# Altium schematic symbol library Power.SchLib: 38 symbols
Pins are listed as number, name and electrical type; pins without a type are passive.

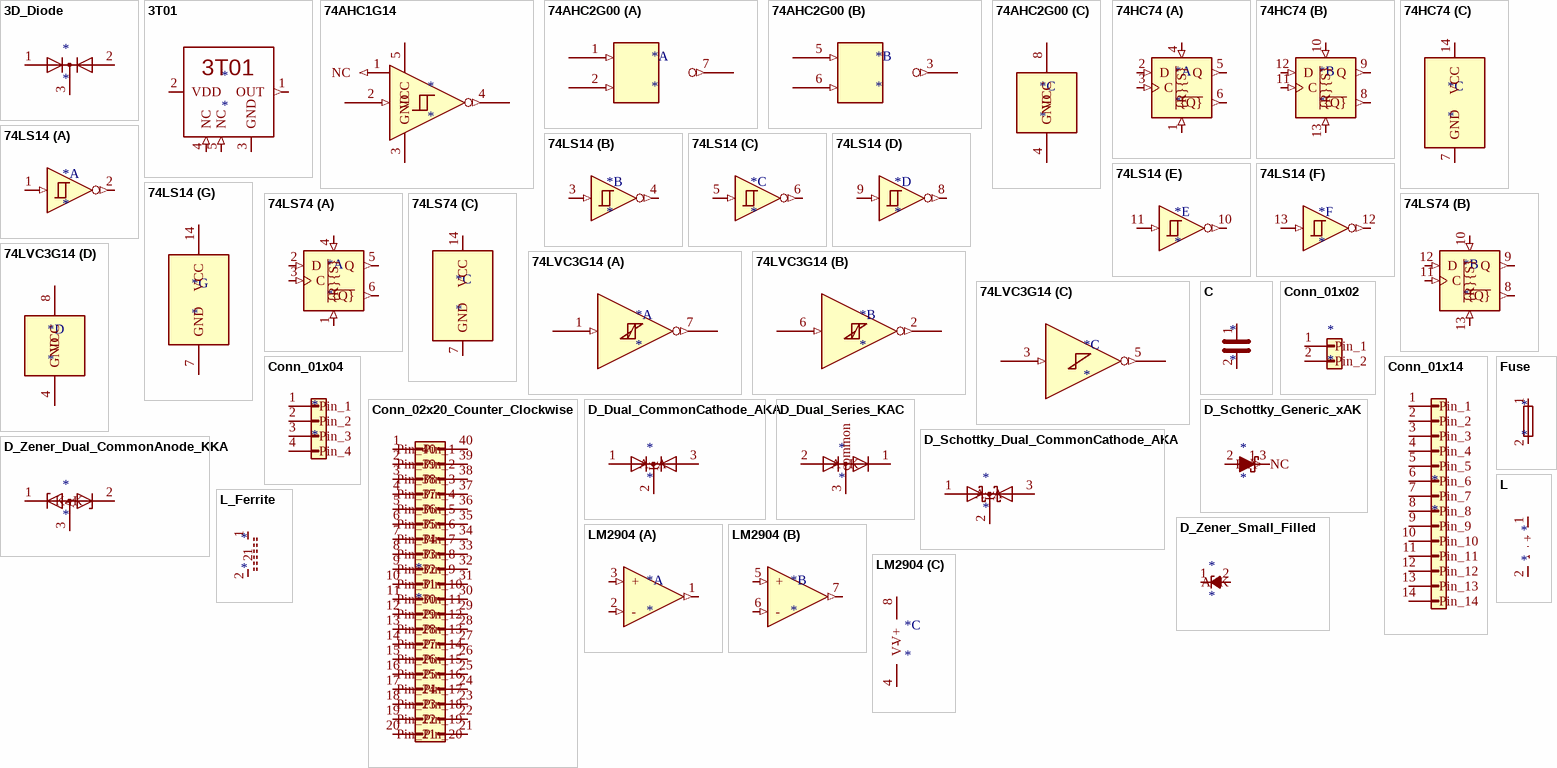
[diagram p0: symbols 3D_Diode to LM2904]

## 3D_Diode
designator *
pins: 1, 2, 3

## 3T01
designator *
pins: 1 OUT (out), 2 VDD (power), 3 GND (power), 4 NC (in), 5 NC (in)

## 74AHC1G14
designator *
pins: 1 NC (in), 2 (in), 3 GND (power), 4 (out), 5 VCC (power)

## 74AHC2G00
designator *
part A pins: 1 (in), 2 (in), 7 (out)
part B pins: 3 (out), 5 (in), 6 (in)
part C pins: 4 GND (power), 8 VCC (power)

## 74HC74
designator *
part A pins: 1 ~{{R}} (in), 2 D (in), 3 C (in), 4 ~{{S}} (in), 5 Q (out), 6 ~{{Q}} (out)
part B pins: 8 ~{{Q}} (out), 9 Q (out), 10 ~{{S}} (in), 11 C (in), 12 D (in), 13 ~{{R}} (in)
part C pins: 7 GND (power), 14 VCC (power)

## 74LS14
designator *
part A pins: 1 (in), 2 (out)
part B pins: 3 (in), 4 (out)
part C pins: 5 (in), 6 (out)
part D pins: 8 (out), 9 (in)
part E pins: 10 (out), 11 (in)
part F pins: 12 (out), 13 (in)
part G pins: 7 GND (power), 14 VCC (power)

## 74LS74
designator *
part A pins: 1 ~{{R}} (in), 2 D (in), 3 C (in), 4 ~{{S}} (in), 5 Q (out), 6 ~{{Q}} (out)
part B pins: 8 ~{{Q}} (out), 9 Q (out), 10 ~{{S}} (in), 11 C (in), 12 D (in), 13 ~{{R}} (in)
part C pins: 7 GND (power), 14 VCC (power)

## 74LVC3G14
designator *
part A pins: 1 (in), 7 (out)
part B pins: 2 (out), 6 (in)
part C pins: 3 (in), 5 (out)
part D pins: 4 GND (power), 8 VCC (power)

## C
designator *
pins: 1, 2

## Conn_01x02
designator *
pins: 1 Pin_1, 2 Pin_2

## Conn_01x04
designator *
pins: 1 Pin_1, 2 Pin_2, 3 Pin_3, 4 Pin_4

## Conn_01x14
designator *
pins: 1 Pin_1, 2 Pin_2, 3 Pin_3, 4 Pin_4, 5 Pin_5, 6 Pin_6, 7 Pin_7, 8 Pin_8, 9 Pin_9, 10 Pin_10, 11 Pin_11, 12 Pin_12, 13 Pin_13, 14 Pin_14

## Conn_02x20_Counter_Clockwise
designator *
pins: 1 Pin_1, 2 Pin_2, 3 Pin_3, 4 Pin_4, 5 Pin_5, 6 Pin_6, 7 Pin_7, 8 Pin_8, 9 Pin_9, 10 Pin_10, 11 Pin_11, 12 Pin_12, 13 Pin_13, 14 Pin_14, 15 Pin_15, 16 Pin_16, 17 Pin_17, 18 Pin_18, 19 Pin_19, 20 Pin_20, 21 Pin_21, 22 Pin_22, 23 Pin_23, 24 Pin_24, 25 Pin_25, 26 Pin_26, 27 Pin_27, 28 Pin_28, 29 Pin_29, 30 Pin_30, 31 Pin_31, 32 Pin_32, 33 Pin_33, 34 Pin_34, 35 Pin_35, 36 Pin_36, 37 Pin_37, 38 Pin_38, 39 Pin_39, 40 Pin_40

## D_Dual_CommonCathode_AKA
designator *
pins: 1 A, 2 K, 3 A

## D_Dual_Series_KAC
designator *
pins: 1 K, 2 A, 3 common

## D_Schottky_Dual_CommonCathode_AKA
designator *
pins: 1 A, 2 K, 3 A

## D_Schottky_Generic_xAK
designator *
pins: 1 NC (in), 2 A, 3 K
1 alternate drawing of the same symbol

## D_Zener_Dual_CommonAnode_KKA
designator *
pins: 1 K, 2 K, 3 A

## D_Zener_Small_Filled
designator *
pins: 1 K, 2 A

## Fuse
designator *
pins: 1, 2

## L
designator *
pins: 1 +, 2 -
2 alternate drawings of the same symbol

## L_Ferrite
designator *
pins: 1, 2

## LM2904
designator *
part A pins: 1 (out), 2 - (in), 3 + (in)
part B pins: 5 + (in), 6 - (in), 7 (out)
part C pins: 4 V- (power), 8 V+ (power)

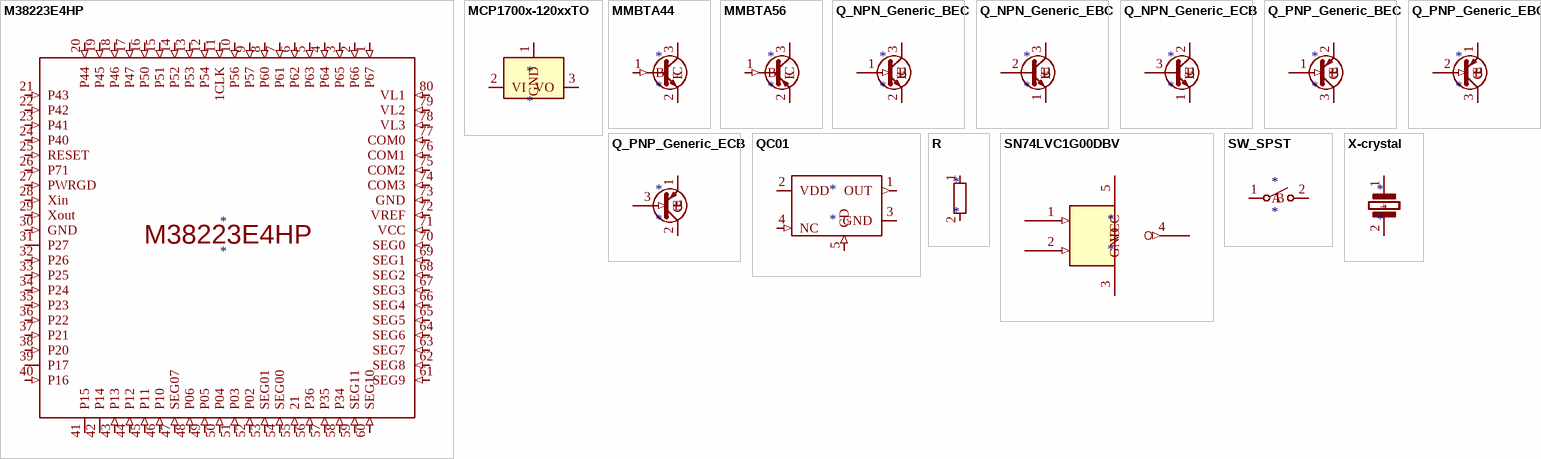
[diagram p1: symbols M38223E4HP to X-crystal]

## M38223E4HP
designator *
pins: 1 P67 (in), 2 P66 (in), 3 P65 (in), 4 P64 (in), 5 P63 (in), 6 P62 (in), 7 P61 (in), 8 P60 (in), 9 P57 (in), 10 P56 (in), 11 1CLK (in), 12 P54 (in), 13 P53 (in), 14 P52 (in), 15 P51 (in), 16 P50 (in), 17 P47 (in), 18 P46 (in), 19 P45 (in), 20 P44 (in), 21 P43 (in), 22 P42 (in), 23 P41 (in), 24 P40 (in), 25 RESET (in), 26 P71 (in), 27 PWRGD (in), 28 Xin (in), 29 Xout (in), 30 GND (in), 31 P27 (io), 32 P26 (in), 33 P25 (in), 34 P24 (in), 35 P23 (in), 36 P22 (in), 37 P21 (in), 38 P20 (in), 39 P17 (io), 40 P16 (in), 41 P15 (io), 42 P14 (io), 43 P13 (in), 44 P12 (in), 45 P11 (in), 46 P10 (in), 47 SEG07 (in), 48 P06 (in), 49 P05 (in), 50 P04 (in), 51 P03 (in), 52 P02 (in), 53 SEG01 (in), 54 SEG00 (in), 55 21 (in), 56 P36 (in), 57 P35 (in), 58 P34 (in), 59 SEG11 (in), 60 SEG10 (in), 61 SEG9 (in), 62 SEG8 (in), 63 SEG7 (in), 64 SEG6 (in), 65 SEG5 (in), 66 SEG4 (in), 67 SEG3 (in), 68 SEG2 (in), 69 SEG1 (in), 70 SEG0 (in), 71 VCC (in), 72 VREF (in), 73 GND (in), 74 COM3 (in), 75 COM2 (in), 76 COM1 (in), 77 COM0 (in), 78 VL3 (in), 79 VL2 (in), 80 VL1 (in)

## MCP1700x-120xxTO
designator *
pins: 1 GND (power), 2 VI (power), 3 VO (power)

## MMBTA44
designator *
pins: 1 B (in), 2 E, 3 C

## MMBTA56
designator *
pins: 1 B (in), 2 E, 3 C

## Q_NPN_Generic_BEC
designator *
pins: 1 B (in), 2 E, 3 C

## Q_NPN_Generic_EBC
designator *
pins: 1 E, 2 B, 3 C

## Q_NPN_Generic_ECB
designator *
pins: 1 E, 2 C, 3 B

## Q_PNP_Generic_BEC
designator *
pins: 1 B (in), 2 E, 3 C

## Q_PNP_Generic_EBC
designator *
pins: 1 E, 2 B (in), 3 C

## Q_PNP_Generic_ECB
designator *
pins: 1 E, 2 C, 3 B (in)

## QC01
designator *
pins: 1 OUT (out), 2 VDD (power), 3 GND (power), 4 NC (in), 5 CD (in)

## R
designator *
pins: 1, 2

## SN74LVC1G00DBV
designator *
pins: 1 (in), 2 (in), 3 GND (power), 4 (out), 5 VCC (power)

## SW_SPST
designator *
pins: 1 A, 2 B

## X-crystal
designator *
pins: 1 +, 2 -
1 alternate drawing of the same symbol